# Altium integrated library WE-PD2_rev15a.intlib: 122 symbols (part 1 of 2)
Pins are listed as number, name and electrical type; pins without a type are passive.

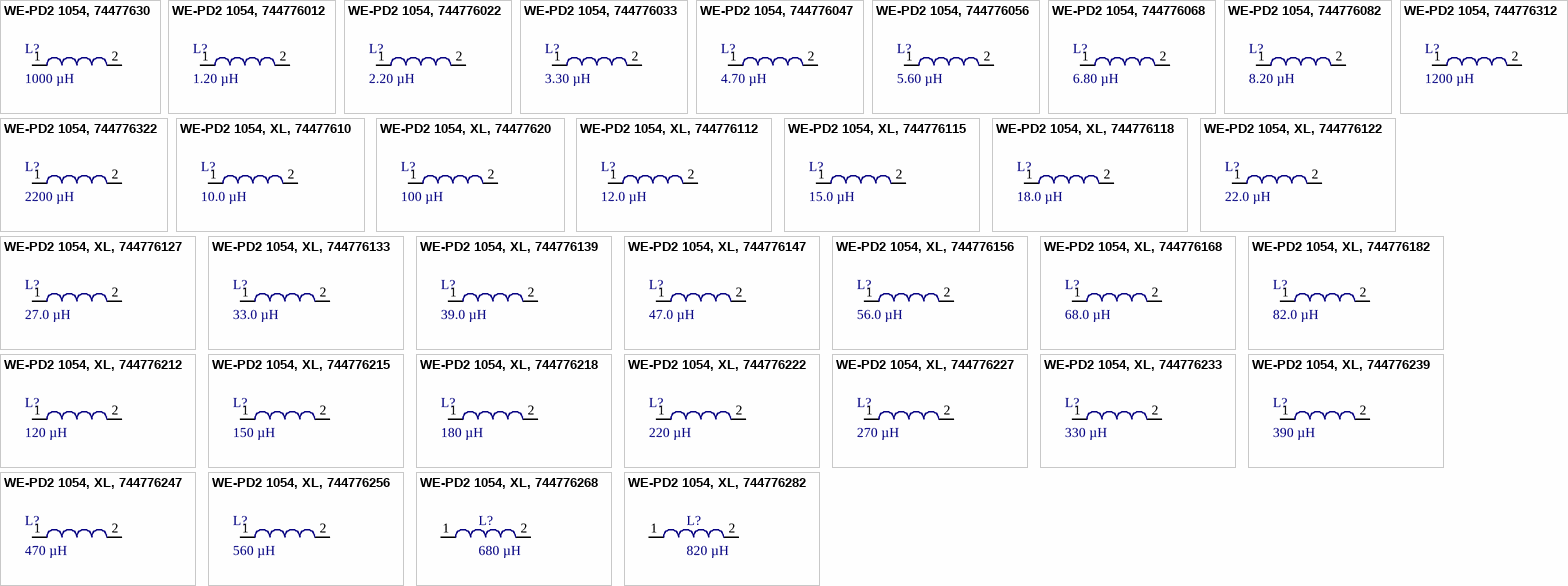
[diagram p0: symbols WE-PD2 1054, 74477630 to WE-PD2 1054, XL, 744776282]

## WE-PD2 1054, 74477630
designator L?, comment 1000 µH
SMD Power Inductor WE-PD2, L=1000 µH; partNo: 74477630; Manufacturer: Würth Elektronik eiSos GmbH; Inductance: 1000 µH; ComponentLink1Description: Manufacturer; ComponentLink1URL: http://www.we-online.de; Created by: Christin Otto; Created Date: August 2013; ComponentLink2Description: Datasheet; ComponentLink2URL: http://www.we-online.de/katalog/media/pdf/74477630.pdf
footprint WE-PD2_1054 (SMD Inductor, 2-Leads, Body 10,0x9,0mm)
pins: 1, 2

## WE-PD2 1054, 744776012
designator L?, comment 1.20 µH
SMD Power Inductor WE-PD2, L=1.20 µH; partNo: 744776012; Manufacturer: Würth Elektronik eiSos GmbH; Inductance: 1.20 µH; ComponentLink1Description: Manufacturer; ComponentLink1URL: http://www.we-online.de; Created by: Christin Otto; Created Date: March 2013; ComponentLink2Description: Datasheet; ComponentLink2URL: http://www.we-online.de/katalog/media/pdf/744776012.pdf
footprint WE-PD2_1054 (SMD Inductor, 2-Leads, Body 10,0x9,0mm)
pins: 1, 2

## WE-PD2 1054, 744776022
designator L?, comment 2.20 µH
SMD Power Inductor WE-PD2, L=2.20 µH; partNo: 744776022; Manufacturer: Würth Elektronik eiSos GmbH; Inductance: 2.20 µH; ComponentLink1Description: Manufacturer; ComponentLink1URL: http://www.we-online.de; Created by: Christin Otto; Created Date: March 2013; ComponentLink2Description: Datasheet; ComponentLink2URL: http://www.we-online.de/katalog/media/pdf/744776022.pdf
footprint WE-PD2_1054 (SMD Inductor, 2-Leads, Body 10,0x9,0mm)
pins: 1, 2

## WE-PD2 1054, 744776033
designator L?, comment 3.30 µH
SMD Power Inductor WE-PD2, L=3.30 µH; partNo: 744776033; Manufacturer: Würth Elektronik eiSos GmbH; Inductance: 3.30 µH; ComponentLink1Description: Manufacturer; ComponentLink1URL: http://www.we-online.de; Created by: Christin Otto; Created Date: March 2013; ComponentLink2Description: Datasheet; ComponentLink2URL: http://www.we-online.de/katalog/media/pdf/744776033.pdf
footprint WE-PD2_1054 (SMD Inductor, 2-Leads, Body 10,0x9,0mm)
pins: 1, 2

## WE-PD2 1054, 744776047
designator L?, comment 4.70 µH
SMD Power Inductor WE-PD2, L=4.70 µH; partNo: 744776047; Manufacturer: Würth Elektronik eiSos GmbH; Inductance: 4.70 µH; ComponentLink1Description: Manufacturer; ComponentLink1URL: http://www.we-online.de; Created by: Christin Otto; Created Date: March 2013; ComponentLink2Description: Datasheet; ComponentLink2URL: http://www.we-online.de/katalog/media/pdf/744776047.pdf
footprint WE-PD2_1054 (SMD Inductor, 2-Leads, Body 10,0x9,0mm)
pins: 1, 2

## WE-PD2 1054, 744776056
designator L?, comment 5.60 µH
SMD Power Inductor WE-PD2, L=5.60 µH; partNo: 744776056; Manufacturer: Würth Elektronik eiSos GmbH; Inductance: 5.60 µH; ComponentLink1Description: Manufacturer; ComponentLink1URL: http://www.we-online.de; Created by: Christin Otto; Created Date: March 2013; ComponentLink2Description: Datasheet; ComponentLink2URL: http://www.we-online.de/katalog/media/pdf/744776056.pdf
footprint WE-PD2_1054 (SMD Inductor, 2-Leads, Body 10,0x9,0mm)
pins: 1, 2

## WE-PD2 1054, 744776068
designator L?, comment 6.80 µH
SMD Power Inductor WE-PD2, L=6.80 µH; partNo: 744776068; Manufacturer: Würth Elektronik eiSos GmbH; Inductance: 6.80 µH; ComponentLink1Description: Manufacturer; ComponentLink1URL: http://www.we-online.de; Created by: Christin Otto; Created Date: March 2013; ComponentLink2Description: Datasheet; ComponentLink2URL: http://www.we-online.de/katalog/media/pdf/744776068.pdf
footprint WE-PD2_1054 (SMD Inductor, 2-Leads, Body 10,0x9,0mm)
pins: 1, 2

## WE-PD2 1054, 744776082
designator L?, comment 8.20 µH
SMD Power Inductor WE-PD2, L=8.20 µH; partNo: 744776082; Manufacturer: Würth Elektronik eiSos GmbH; Inductance: 8.20 µH; ComponentLink1Description: Manufacturer; ComponentLink1URL: http://www.we-online.de; Created by: Christin Otto; Created Date: March 2013; ComponentLink2Description: Datasheet; ComponentLink2URL: http://www.we-online.de/katalog/media/pdf/744776082.pdf
footprint WE-PD2_1054 (SMD Inductor, 2-Leads, Body 10,0x9,0mm)
pins: 1, 2

## WE-PD2 1054, 744776312
designator L?, comment 1200 µH
SMD Power Inductor WE-PD2, L=1200 µH; partNo: 744776312; Manufacturer: Würth Elektronik eiSos GmbH; Inductance: 1200 µH; ComponentLink1Description: Manufacturer; ComponentLink1URL: http://www.we-online.de; Created by: Christin Otto; Created Date: August 2013; ComponentLink2Description: Datasheet; ComponentLink2URL: http://www.we-online.de/katalog/media/pdf/744776312.pdf
footprint WE-PD2_1054 (SMD Inductor, 2-Leads, Body 10,0x9,0mm)
pins: 1, 2

## WE-PD2 1054, 744776322
designator L?, comment 2200 µH
SMD Power Inductor WE-PD2, L=2200 µH; partNo: 744776322; Manufacturer: Würth Elektronik eiSos GmbH; Inductance: 2200 µH; ComponentLink1Description: Manufacturer; ComponentLink1URL: http://www.we-online.de; Created by: Christin Otto; Created Date: August 2013; ComponentLink2Description: Datasheet; ComponentLink2URL: http://www.we-online.de/katalog/media/pdf/744776322.pdf
footprint WE-PD2_1054 (SMD Inductor, 2-Leads, Body 10,0x9,0mm)
pins: 1, 2

## WE-PD2 1054, XL, 74477610
designator L?, comment 10.0 µH
SMD Power Inductor WE-PD2, L=10.0 µH; partNo: 74477610; Manufacturer: Würth Elektronik eiSos GmbH; Inductance: 10.0 µH; ComponentLink1Description: Manufacturer; ComponentLink1URL: http://www.we-online.de; Created by: Christin Zierenner; Created Date: August 2009; ComponentLink2Description: Datasheet; ComponentLink2URL: http://www.we-online.de/katalog/media/pdf/74477610.pdf
footprint WE-PD2_1054 (SMD Inductor, 2-Leads, Body 10,0x9,0mm)
pins: 1, 2

## WE-PD2 1054, XL, 74477620
designator L?, comment 100 µH
SMD Power Inductor WE-PD2, L=100 µH; partNo: 74477620; Manufacturer: Würth Elektronik eiSos GmbH; Inductance: 100 µH; ComponentLink1Description: Manufacturer; ComponentLink1URL: http://www.we-online.de; Created by: Christin Zierenner; Created Date: August 2009; ComponentLink2Description: Datasheet; ComponentLink2URL: http://www.we-online.de/katalog/media/pdf/74477620.pdf
footprint WE-PD2_1054 (SMD Inductor, 2-Leads, Body 10,0x9,0mm)
pins: 1, 2

## WE-PD2 1054, XL, 744776112
designator L?, comment 12.0 µH
SMD Power Inductor WE-PD2, L=12.0 µH; partNo: 744776112; Manufacturer: Würth Elektronik eiSos GmbH; Inductance: 12.0 µH; ComponentLink1Description: Manufacturer; ComponentLink1URL: http://www.we-online.de; Created by: Christin Zierenner; Created Date: August 2009; ComponentLink2Description: Datasheet; ComponentLink2URL: http://www.we-online.de/katalog/media/pdf/744776112.pdf
footprint WE-PD2_1054 (SMD Inductor, 2-Leads, Body 10,0x9,0mm)
pins: 1, 2

## WE-PD2 1054, XL, 744776115
designator L?, comment 15.0 µH
SMD Power Inductor WE-PD2, L=15.0 µH; partNo: 744776115; Manufacturer: Würth Elektronik eiSos GmbH; Inductance: 15.0 µH; ComponentLink1Description: Manufacturer; ComponentLink1URL: http://www.we-online.de; Created by: Christin Zierenner; Created Date: August 2009; ComponentLink2Description: Datasheet; ComponentLink2URL: http://www.we-online.de/katalog/media/pdf/744776115.pdf
footprint WE-PD2_1054 (SMD Inductor, 2-Leads, Body 10,0x9,0mm)
pins: 1, 2

## WE-PD2 1054, XL, 744776118
designator L?, comment 18.0 µH
SMD Power Inductor WE-PD2, L=18.0 µH; partNo: 744776118; Manufacturer: Würth Elektronik eiSos GmbH; Inductance: 18.0 µH; ComponentLink1Description: Manufacturer; ComponentLink1URL: http://www.we-online.de; Created by: Christin Zierenner; Created Date: August 2009; ComponentLink2Description: Datasheet; ComponentLink2URL: http://www.we-online.de/katalog/media/pdf/744776118.pdf
footprint WE-PD2_1054 (SMD Inductor, 2-Leads, Body 10,0x9,0mm)
pins: 1, 2

## WE-PD2 1054, XL, 744776122
designator L?, comment 22.0 µH
SMD Power Inductor WE-PD2, L=22.0 µH; partNo: 744776122; Manufacturer: Würth Elektronik eiSos GmbH; Inductance: 22.0 µH; ComponentLink1Description: Manufacturer; ComponentLink1URL: http://www.we-online.de; Created by: Christin Zierenner; Created Date: August 2009; ComponentLink2Description: Datasheet; ComponentLink2URL: http://www.we-online.de/katalog/media/pdf/744776122.pdf
footprint WE-PD2_1054 (SMD Inductor, 2-Leads, Body 10,0x9,0mm)
pins: 1, 2

## WE-PD2 1054, XL, 744776127
designator L?, comment 27.0 µH
SMD Power Inductor WE-PD2, L=27.0 µH; partNo: 744776127; Manufacturer: Würth Elektronik eiSos GmbH; Inductance: 27.0 µH; ComponentLink1Description: Manufacturer; ComponentLink1URL: http://www.we-online.de; Created by: Christin Zierenner; Created Date: August 2009; ComponentLink2Description: Datasheet; ComponentLink2URL: http://www.we-online.de/katalog/media/pdf/744776127.pdf
footprint WE-PD2_1054 (SMD Inductor, 2-Leads, Body 10,0x9,0mm)
pins: 1, 2

## WE-PD2 1054, XL, 744776133
designator L?, comment 33.0 µH
SMD Power Inductor WE-PD2, L=33.0 µH; partNo: 744776133; Manufacturer: Würth Elektronik eiSos GmbH; Inductance: 33.0 µH; ComponentLink1Description: Manufacturer; ComponentLink1URL: http://www.we-online.de; Created by: Christin Zierenner; Created Date: August 2009; ComponentLink2Description: Datasheet; ComponentLink2URL: http://www.we-online.de/katalog/media/pdf/744776133.pdf
footprint WE-PD2_1054 (SMD Inductor, 2-Leads, Body 10,0x9,0mm)
pins: 1, 2

## WE-PD2 1054, XL, 744776139
designator L?, comment 39.0 µH
SMD Power Inductor WE-PD2, L=39.0 µH; partNo: 744776139; Manufacturer: Würth Elektronik eiSos GmbH; Inductance: 39.0 µH; ComponentLink1Description: Manufacturer; ComponentLink1URL: http://www.we-online.de; Created by: Christin Zierenner; Created Date: August 2009; ComponentLink2Description: Datasheet; ComponentLink2URL: http://www.we-online.de/katalog/media/pdf/744776139.pdf
footprint WE-PD2_1054 (SMD Inductor, 2-Leads, Body 10,0x9,0mm)
pins: 1, 2

## WE-PD2 1054, XL, 744776147
designator L?, comment 47.0 µH
SMD Power Inductor WE-PD2, L=47.0 µH; partNo: 744776147; Manufacturer: Würth Elektronik eiSos GmbH; Inductance: 47.0 µH; ComponentLink1Description: Manufacturer; ComponentLink1URL: http://www.we-online.de; Created by: Christin Zierenner; Created Date: August 2009; ComponentLink2Description: Datasheet; ComponentLink2URL: http://www.we-online.de/katalog/media/pdf/744776147.pdf
footprint WE-PD2_1054 (SMD Inductor, 2-Leads, Body 10,0x9,0mm)
pins: 1, 2

## WE-PD2 1054, XL, 744776156
designator L?, comment 56.0 µH
SMD Power Inductor WE-PD2, L=56.0 µH; partNo: 744776156; Manufacturer: Würth Elektronik eiSos GmbH; Inductance: 56.0 µH; ComponentLink1Description: Manufacturer; ComponentLink1URL: http://www.we-online.de; Created by: Christin Zierenner; Created Date: August 2009; ComponentLink2Description: Datasheet; ComponentLink2URL: http://www.we-online.de/katalog/media/pdf/744776156.pdf
footprint WE-PD2_1054 (SMD Inductor, 2-Leads, Body 10,0x9,0mm)
pins: 1, 2

## WE-PD2 1054, XL, 744776168
designator L?, comment 68.0 µH
SMD Power Inductor WE-PD2, L=68.0 µH; partNo: 744776168; Manufacturer: Würth Elektronik eiSos GmbH; Inductance: 68.0 µH; ComponentLink1Description: Manufacturer; ComponentLink1URL: http://www.we-online.de; Created by: Christin Zierenner; Created Date: August 2009; ComponentLink2Description: Datasheet; ComponentLink2URL: http://www.we-online.de/katalog/media/pdf/744776168.pdf
footprint WE-PD2_1054 (SMD Inductor, 2-Leads, Body 10,0x9,0mm)
pins: 1, 2

## WE-PD2 1054, XL, 744776182
designator L?, comment 82.0 µH
SMD Power Inductor WE-PD2, L=82.0 µH; partNo: 744776182; Manufacturer: Würth Elektronik eiSos GmbH; Inductance: 82.0 µH; ComponentLink1Description: Manufacturer; ComponentLink1URL: http://www.we-online.de; Created by: Christin Zierenner; Created Date: August 2009; ComponentLink2Description: Datasheet; ComponentLink2URL: http://www.we-online.de/katalog/media/pdf/744776182.pdf
footprint WE-PD2_1054 (SMD Inductor, 2-Leads, Body 10,0x9,0mm)
pins: 1, 2

## WE-PD2 1054, XL, 744776212
designator L?, comment 120 µH
SMD Power Inductor WE-PD2, L=120 µH; partNo: 744776212; Manufacturer: Würth Elektronik eiSos GmbH; Inductance: 120 µH; ComponentLink1Description: Manufacturer; ComponentLink1URL: http://www.we-online.de; Created by: Christin Zierenner; Created Date: August 2009; ComponentLink2Description: Datasheet; ComponentLink2URL: http://www.we-online.de/katalog/media/pdf/744776212.pdf
footprint WE-PD2_1054 (SMD Inductor, 2-Leads, Body 10,0x9,0mm)
pins: 1, 2

## WE-PD2 1054, XL, 744776215
designator L?, comment 150 µH
SMD Power Inductor WE-PD2, L=150 µH; partNo: 744776215; Manufacturer: Würth Elektronik eiSos GmbH; Inductance: 150 µH; ComponentLink1Description: Manufacturer; ComponentLink1URL: http://www.we-online.de; Created by: Christin Zierenner; Created Date: August 2009; ComponentLink2Description: Datasheet; ComponentLink2URL: http://www.we-online.de/katalog/media/pdf/744776215.pdf
footprint WE-PD2_1054 (SMD Inductor, 2-Leads, Body 10,0x9,0mm)
pins: 1, 2

## WE-PD2 1054, XL, 744776218
designator L?, comment 180 µH
SMD Power Inductor WE-PD2, L=180 µH; partNo: 744776218; Manufacturer: Würth Elektronik eiSos GmbH; Inductance: 180 µH; ComponentLink1Description: Manufacturer; ComponentLink1URL: http://www.we-online.de; Created by: Christin Zierenner; Created Date: August 2009; ComponentLink2Description: Datasheet; ComponentLink2URL: http://www.we-online.de/katalog/media/pdf/744776218.pdf
footprint WE-PD2_1054 (SMD Inductor, 2-Leads, Body 10,0x9,0mm)
pins: 1, 2

## WE-PD2 1054, XL, 744776222
designator L?, comment 220 µH
SMD Power Inductor WE-PD2, L=220 µH; partNo: 744776222; Manufacturer: Würth Elektronik eiSos GmbH; Inductance: 220 µH; ComponentLink1Description: Manufacturer; ComponentLink1URL: http://www.we-online.de; Created by: Christin Zierenner; Created Date: August 2009; ComponentLink2Description: Datasheet; ComponentLink2URL: http://www.we-online.de/katalog/media/pdf/744776222.pdf
footprint WE-PD2_1054 (SMD Inductor, 2-Leads, Body 10,0x9,0mm)
pins: 1, 2

## WE-PD2 1054, XL, 744776227
designator L?, comment 270 µH
SMD Power Inductor WE-PD2, L=270 µH; partNo: 744776227; Manufacturer: Würth Elektronik eiSos GmbH; Inductance: 270 µH; ComponentLink1Description: Manufacturer; ComponentLink1URL: http://www.we-online.de; Created by: Christin Zierenner; Created Date: August 2009; ComponentLink2Description: Datasheet; ComponentLink2URL: http://www.we-online.de/katalog/media/pdf/744776227.pdf
footprint WE-PD2_1054 (SMD Inductor, 2-Leads, Body 10,0x9,0mm)
pins: 1, 2

## WE-PD2 1054, XL, 744776233
designator L?, comment 330 µH
SMD Power Inductor WE-PD2, L=330 µH; partNo: 744776233; Manufacturer: Würth Elektronik eiSos GmbH; Inductance: 330 µH; ComponentLink1Description: Manufacturer; ComponentLink1URL: http://www.we-online.de; Created by: Christin Zierenner; Created Date: August 2009; ComponentLink2Description: Datasheet; ComponentLink2URL: http://www.we-online.de/katalog/media/pdf/744776233.pdf
footprint WE-PD2_1054 (SMD Inductor, 2-Leads, Body 10,0x9,0mm)
pins: 1, 2

## WE-PD2 1054, XL, 744776239
designator L?, comment 390 µH
SMD Power Inductor WE-PD2, L=390 µH; partNo: 744776239; Manufacturer: Würth Elektronik eiSos GmbH; Inductance: 390 µH; ComponentLink1Description: Manufacturer; ComponentLink1URL: http://www.we-online.de; Created by: Christin Zierenner; Created Date: August 2009; ComponentLink2Description: Datasheet; ComponentLink2URL: http://www.we-online.de/katalog/media/pdf/744776239.pdf
footprint WE-PD2_1054 (SMD Inductor, 2-Leads, Body 10,0x9,0mm)
pins: 1, 2

## WE-PD2 1054, XL, 744776247
designator L?, comment 470 µH
SMD Power Inductor WE-PD2, L=470 µH; partNo: 744776247; Manufacturer: Würth Elektronik eiSos GmbH; Inductance: 470 µH; ComponentLink1Description: Manufacturer; ComponentLink1URL: http://www.we-online.de; Created by: Christin Zierenner; Created Date: August 2009; ComponentLink2Description: Datasheet; ComponentLink2URL: http://www.we-online.de/katalog/media/pdf/744776247.pdf
footprint WE-PD2_1054 (SMD Inductor, 2-Leads, Body 10,0x9,0mm)
pins: 1, 2

## WE-PD2 1054, XL, 744776256
designator L?, comment 560 µH
SMD Power Inductor WE-PD2, L=560 µH; partNo: 744776256; Manufacturer: Würth Elektronik eiSos GmbH; Inductance: 560 µH; ComponentLink1Description: Manufacturer; ComponentLink1URL: http://www.we-online.de; Created by: Christin Zierenner; Created Date: August 2009; ComponentLink2Description: Datasheet; ComponentLink2URL: http://www.we-online.de/katalog/media/pdf/744776256.pdf
footprint WE-PD2_1054 (SMD Inductor, 2-Leads, Body 10,0x9,0mm)
pins: 1, 2

## WE-PD2 1054, XL, 744776268
designator L?, comment 680 µH
SMD Power Inductor WE-PD2, L=680 µH; partNo: 744776268; Manufacturer: Würth Elektronik eiSos GmbH; Inductance: 680 µH; ComponentLink1Description: Manufacturer; ComponentLink1URL: http://www.we-online.de; Created by: Christin Zierenner; Created Date: August 2009; ComponentLink2Description: Datasheet; ComponentLink2URL: http://www.we-online.de/katalog/media/pdf/744776268.pdf
footprint WE-PD2_1054 (SMD Inductor, 2-Leads, Body 10,0x9,0mm)
pins: 1, 2

## WE-PD2 1054, XL, 744776282
designator L?, comment 820 µH
SMD Power Inductor WE-PD2, L=820 µH; partNo: 744776282; Manufacturer: Würth Elektronik eiSos GmbH; Inductance: 820 µH; ComponentLink1Description: Manufacturer; ComponentLink1URL: http://www.we-online.de; Created by: Christin Zierenner; Created Date: August 2009; ComponentLink2Description: Datasheet; ComponentLink2URL: http://www.we-online.de/katalog/media/pdf/744776282.pdf
footprint WE-PD2_1054 (SMD Inductor, 2-Leads, Body 10,0x9,0mm)
pins: 1, 2


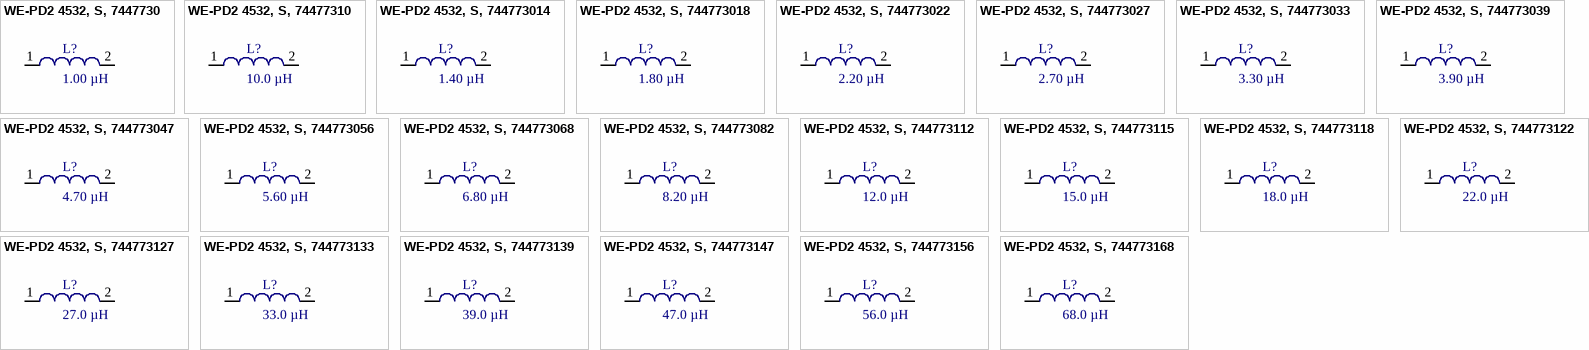
[diagram p1: symbols WE-PD2 4532, S, 7447730 to WE-PD2 4532, S, 744773168]

## WE-PD2 4532, S, 7447730
designator L?, comment 1.00 µH
SMD Power Inductor WE-PD2, L=1.00 µH; partNo: 7447730; Manufacturer: Würth Elektronik eiSos GmbH; Inductance: 1.00 µH; ComponentLink1Description: Manufacturer; ComponentLink1URL: http://www.we-online.de; Created by: Christin Zierenner; Created Date: August 2009; ComponentLink2Description: Datasheet; ComponentLink2URL: http://www.we-online.de/katalog/media/pdf/7447730.pdf
footprint WE-PD2_4532 (SMD Inductor, 2-Leads, Body 4,5x4,0mm)
pins: 1, 2

## WE-PD2 4532, S, 74477310
designator L?, comment 10.0 µH
SMD Power Inductor WE-PD2, L=10.0 µH; partNo: 74477310; Manufacturer: Würth Elektronik eiSos GmbH; Inductance: 10.0 µH; ComponentLink1Description: Manufacturer; ComponentLink1URL: http://www.we-online.de; Created by: Christin Zierenner; Created Date: August 2009; ComponentLink2Description: Datasheet; ComponentLink2URL: http://www.we-online.de/katalog/media/pdf/74477310.pdf
footprint WE-PD2_4532 (SMD Inductor, 2-Leads, Body 4,5x4,0mm)
pins: 1, 2

## WE-PD2 4532, S, 744773014
designator L?, comment 1.40 µH
SMD Power Inductor WE-PD2, L=1.40 µH; partNo: 744773014; Manufacturer: Würth Elektronik eiSos GmbH; Inductance: 1.40 µH; ComponentLink1Description: Manufacturer; ComponentLink1URL: http://www.we-online.de; Created by: Christin Zierenner; Created Date: August 2009; ComponentLink2Description: Datasheet; ComponentLink2URL: http://www.we-online.de/katalog/media/pdf/744773014.pdf
footprint WE-PD2_4532 (SMD Inductor, 2-Leads, Body 4,5x4,0mm)
pins: 1, 2

## WE-PD2 4532, S, 744773018
designator L?, comment 1.80 µH
SMD Power Inductor WE-PD2, L=1.80 µH; partNo: 744773018; Manufacturer: Würth Elektronik eiSos GmbH; Inductance: 1.80 µH; ComponentLink1Description: Manufacturer; ComponentLink1URL: http://www.we-online.de; Created by: Christin Zierenner; Created Date: August 2009; ComponentLink2Description: Datasheet; ComponentLink2URL: http://www.we-online.de/katalog/media/pdf/744773018.pdf
footprint WE-PD2_4532 (SMD Inductor, 2-Leads, Body 4,5x4,0mm)
pins: 1, 2

## WE-PD2 4532, S, 744773022
designator L?, comment 2.20 µH
SMD Power Inductor WE-PD2, L=2.20 µH; partNo: 744773022; Manufacturer: Würth Elektronik eiSos GmbH; Inductance: 2.20 µH; ComponentLink1Description: Manufacturer; ComponentLink1URL: http://www.we-online.de; Created by: Christin Zierenner; Created Date: August 2009; ComponentLink2Description: Datasheet; ComponentLink2URL: http://www.we-online.de/katalog/media/pdf/744773022.pdf
footprint WE-PD2_4532 (SMD Inductor, 2-Leads, Body 4,5x4,0mm)
pins: 1, 2

## WE-PD2 4532, S, 744773027
designator L?, comment 2.70 µH
SMD Power Inductor WE-PD2, L=2.70 µH; partNo: 744773027; Manufacturer: Würth Elektronik eiSos GmbH; Inductance: 2.70 µH; ComponentLink1Description: Manufacturer; ComponentLink1URL: http://www.we-online.de; Created by: Christin Zierenner; Created Date: August 2009; ComponentLink2Description: Datasheet; ComponentLink2URL: http://www.we-online.de/katalog/media/pdf/744773027.pdf
footprint WE-PD2_4532 (SMD Inductor, 2-Leads, Body 4,5x4,0mm)
pins: 1, 2

## WE-PD2 4532, S, 744773033
designator L?, comment 3.30 µH
SMD Power Inductor WE-PD2, L=3.30 µH; partNo: 744773033; Manufacturer: Würth Elektronik eiSos GmbH; Inductance: 3.30 µH; ComponentLink1Description: Manufacturer; ComponentLink1URL: http://www.we-online.de; Created by: Christin Zierenner; Created Date: August 2009; ComponentLink2Description: Datasheet; ComponentLink2URL: http://www.we-online.de/katalog/media/pdf/744773033.pdf
footprint WE-PD2_4532 (SMD Inductor, 2-Leads, Body 4,5x4,0mm)
pins: 1, 2

## WE-PD2 4532, S, 744773039
designator L?, comment 3.90 µH
SMD Power Inductor WE-PD2, L=3.90 µH; partNo: 744773039; Manufacturer: Würth Elektronik eiSos GmbH; Inductance: 3.90 µH; ComponentLink1Description: Manufacturer; ComponentLink1URL: http://www.we-online.de; Created by: Christin Zierenner; Created Date: August 2009; ComponentLink2Description: Datasheet; ComponentLink2URL: http://www.we-online.de/katalog/media/pdf/744773039.pdf
footprint WE-PD2_4532 (SMD Inductor, 2-Leads, Body 4,5x4,0mm)
pins: 1, 2

## WE-PD2 4532, S, 744773047
designator L?, comment 4.70 µH
SMD Power Inductor WE-PD2, L=4.70 µH; partNo: 744773047; Manufacturer: Würth Elektronik eiSos GmbH; Inductance: 4.70 µH; ComponentLink1Description: Manufacturer; ComponentLink1URL: http://www.we-online.de; Created by: Christin Zierenner; Created Date: August 2009; ComponentLink2Description: Datasheet; ComponentLink2URL: http://www.we-online.de/katalog/media/pdf/744773047.pdf
footprint WE-PD2_4532 (SMD Inductor, 2-Leads, Body 4,5x4,0mm)
pins: 1, 2

## WE-PD2 4532, S, 744773056
designator L?, comment 5.60 µH
SMD Power Inductor WE-PD2, L=5.60 µH; partNo: 744773056; Manufacturer: Würth Elektronik eiSos GmbH; Inductance: 5.60 µH; ComponentLink1Description: Manufacturer; ComponentLink1URL: http://www.we-online.de; Created by: Christin Zierenner; Created Date: August 2009; ComponentLink2Description: Datasheet; ComponentLink2URL: http://www.we-online.de/katalog/media/pdf/744773056.pdf
footprint WE-PD2_4532 (SMD Inductor, 2-Leads, Body 4,5x4,0mm)
pins: 1, 2

## WE-PD2 4532, S, 744773068
designator L?, comment 6.80 µH
SMD Power Inductor WE-PD2, L=6.80 µH; partNo: 744773068; Manufacturer: Würth Elektronik eiSos GmbH; Inductance: 6.80 µH; ComponentLink1Description: Manufacturer; ComponentLink1URL: http://www.we-online.de; Created by: Christin Zierenner; Created Date: August 2009; ComponentLink2Description: Datasheet; ComponentLink2URL: http://www.we-online.de/katalog/media/pdf/744773068.pdf
footprint WE-PD2_4532 (SMD Inductor, 2-Leads, Body 4,5x4,0mm)
pins: 1, 2

## WE-PD2 4532, S, 744773082
designator L?, comment 8.20 µH
SMD Power Inductor WE-PD2, L=8.20 µH; partNo: 744773082; Manufacturer: Würth Elektronik eiSos GmbH; Inductance: 8.20 µH; ComponentLink1Description: Manufacturer; ComponentLink1URL: http://www.we-online.de; Created by: Christin Zierenner; Created Date: August 2009; ComponentLink2Description: Datasheet; ComponentLink2URL: http://www.we-online.de/katalog/media/pdf/744773082.pdf
footprint WE-PD2_4532 (SMD Inductor, 2-Leads, Body 4,5x4,0mm)
pins: 1, 2

## WE-PD2 4532, S, 744773112
designator L?, comment 12.0 µH
SMD Power Inductor WE-PD2, L=12.0 µH; partNo: 744773112; Manufacturer: Würth Elektronik eiSos GmbH; Inductance: 12.0 µH; ComponentLink1Description: Manufacturer; ComponentLink1URL: http://www.we-online.de; Created by: Christin Zierenner; Created Date: August 2009; ComponentLink2Description: Datasheet; ComponentLink2URL: http://www.we-online.de/katalog/media/pdf/744773112.pdf
footprint WE-PD2_4532 (SMD Inductor, 2-Leads, Body 4,5x4,0mm)
pins: 1, 2

## WE-PD2 4532, S, 744773115
designator L?, comment 15.0 µH
SMD Power Inductor WE-PD2, L=15.0 µH; partNo: 744773115; Manufacturer: Würth Elektronik eiSos GmbH; Inductance: 15.0 µH; ComponentLink1Description: Manufacturer; ComponentLink1URL: http://www.we-online.de; Created by: Christin Zierenner; Created Date: August 2009; ComponentLink2Description: Datasheet; ComponentLink2URL: http://www.we-online.de/katalog/media/pdf/744773115.pdf
footprint WE-PD2_4532 (SMD Inductor, 2-Leads, Body 4,5x4,0mm)
pins: 1, 2

## WE-PD2 4532, S, 744773118
designator L?, comment 18.0 µH
SMD Power Inductor WE-PD2, L=18.0 µH; partNo: 744773118; Manufacturer: Würth Elektronik eiSos GmbH; Inductance: 18.0 µH; ComponentLink1Description: Manufacturer; ComponentLink1URL: http://www.we-online.de; Created by: Christin Zierenner; Created Date: August 2009; ComponentLink2Description: Datasheet; ComponentLink2URL: http://www.we-online.de/katalog/media/pdf/744773118.pdf
footprint WE-PD2_4532 (SMD Inductor, 2-Leads, Body 4,5x4,0mm)
pins: 1, 2

## WE-PD2 4532, S, 744773122
designator L?, comment 22.0 µH
SMD Power Inductor WE-PD2, L=22.0 µH; partNo: 744773122; Manufacturer: Würth Elektronik eiSos GmbH; Inductance: 22.0 µH; ComponentLink1Description: Manufacturer; ComponentLink1URL: http://www.we-online.de; Created by: Christin Zierenner; Created Date: August 2009; ComponentLink2Description: Datasheet; ComponentLink2URL: http://www.we-online.de/katalog/media/pdf/744773122.pdf
footprint WE-PD2_4532 (SMD Inductor, 2-Leads, Body 4,5x4,0mm)
pins: 1, 2

## WE-PD2 4532, S, 744773127
designator L?, comment 27.0 µH
SMD Power Inductor WE-PD2, L=27.0 µH; partNo: 744773127; Manufacturer: Würth Elektronik eiSos GmbH; Inductance: 27.0 µH; ComponentLink1Description: Manufacturer; ComponentLink1URL: http://www.we-online.de; Created by: Christin Zierenner; Created Date: August 2009; ComponentLink2Description: Datasheet; ComponentLink2URL: http://www.we-online.de/katalog/media/pdf/744773127.pdf
footprint WE-PD2_4532 (SMD Inductor, 2-Leads, Body 4,5x4,0mm)
pins: 1, 2

## WE-PD2 4532, S, 744773133
designator L?, comment 33.0 µH
SMD Power Inductor WE-PD2, L=33.0 µH; partNo: 744773133; Manufacturer: Würth Elektronik eiSos GmbH; Inductance: 33.0 µH; ComponentLink1Description: Manufacturer; ComponentLink1URL: http://www.we-online.de; Created by: Christin Zierenner; Created Date: August 2009; ComponentLink2Description: Datasheet; ComponentLink2URL: http://www.we-online.de/katalog/media/pdf/744773133.pdf
footprint WE-PD2_4532 (SMD Inductor, 2-Leads, Body 4,5x4,0mm)
pins: 1, 2

## WE-PD2 4532, S, 744773139
designator L?, comment 39.0 µH
SMD Power Inductor WE-PD2, L=39.0 µH; partNo: 744773139; Manufacturer: Würth Elektronik eiSos GmbH; Inductance: 39.0 µH; ComponentLink1Description: Manufacturer; ComponentLink1URL: http://www.we-online.de; Created by: Christin Zierenner; Created Date: August 2009; ComponentLink2Description: Datasheet; ComponentLink2URL: http://www.we-online.de/katalog/media/pdf/744773139.pdf
footprint WE-PD2_4532 (SMD Inductor, 2-Leads, Body 4,5x4,0mm)
pins: 1, 2

## WE-PD2 4532, S, 744773147
designator L?, comment 47.0 µH
SMD Power Inductor WE-PD2, L=47.0 µH; partNo: 744773147; Manufacturer: Würth Elektronik eiSos GmbH; Inductance: 47.0 µH; ComponentLink1Description: Manufacturer; ComponentLink1URL: http://www.we-online.de; Created by: Christin Zierenner; Created Date: August 2009; ComponentLink2Description: Datasheet; ComponentLink2URL: http://www.we-online.de/katalog/media/pdf/744773147.pdf
footprint WE-PD2_4532 (SMD Inductor, 2-Leads, Body 4,5x4,0mm)
pins: 1, 2

## WE-PD2 4532, S, 744773156
designator L?, comment 56.0 µH
SMD Power Inductor WE-PD2, L=56.0 µH; partNo: 744773156; Manufacturer: Würth Elektronik eiSos GmbH; Inductance: 56.0 µH; ComponentLink1Description: Manufacturer; ComponentLink1URL: http://www.we-online.de; Created by: Christin Zierenner; Created Date: August 2009; ComponentLink2Description: Datasheet; ComponentLink2URL: http://www.we-online.de/katalog/media/pdf/744773156.pdf
footprint WE-PD2_4532 (SMD Inductor, 2-Leads, Body 4,5x4,0mm)
pins: 1, 2

## WE-PD2 4532, S, 744773168
designator L?, comment 68.0 µH
SMD Power Inductor WE-PD2, L=68.0 µH; partNo: 744773168; Manufacturer: Würth Elektronik eiSos GmbH; Inductance: 68.0 µH; ComponentLink1Description: Manufacturer; ComponentLink1URL: http://www.we-online.de; Created by: Christin Zierenner; Created Date: August 2009; ComponentLink2Description: Datasheet; ComponentLink2URL: http://www.we-online.de/katalog/media/pdf/744773168.pdf
footprint WE-PD2_4532 (SMD Inductor, 2-Leads, Body 4,5x4,0mm)
pins: 1, 2


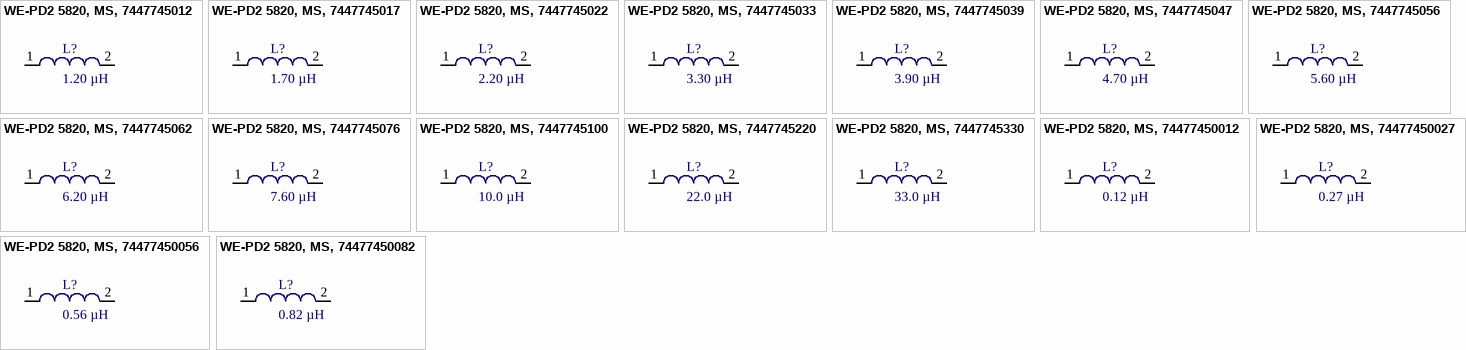
[diagram p2: symbols WE-PD2 5820, MS, 7447745012 to WE-PD2 5820, MS, 74477450082]

## WE-PD2 5820, MS, 7447745012
designator L?, comment 1.20 µH
SMD Power Inductor WE-PD2, L=1.20 µH; partNo: 7447745012; Manufacturer: Würth Elektronik eiSos GmbH; Inductance: 1.20 µH; ComponentLink1Description: Manufacturer; ComponentLink1URL: http://www.we-online.de; Created by: Christin Zierenner; Created Date: August 2009; ComponentLink2Description: Datasheet; ComponentLink2URL: http://www.we-online.de/katalog/media/pdf/7447745012.pdf
footprint WE-PD2_5820 (SMD Inductor, 2-Leads, Body 5,8x5,2mm)
pins: 1, 2

## WE-PD2 5820, MS, 7447745017
designator L?, comment 1.70 µH
SMD Power Inductor WE-PD2, L=1.70 µH; partNo: 7447745017; Manufacturer: Würth Elektronik eiSos GmbH; Inductance: 1.70 µH; ComponentLink1Description: Manufacturer; ComponentLink1URL: http://www.we-online.de; Created by: Christin Zierenner; Created Date: August 2009; ComponentLink2Description: Datasheet; ComponentLink2URL: http://www.we-online.de/katalog/media/pdf/7447745017.pdf
footprint WE-PD2_5820 (SMD Inductor, 2-Leads, Body 5,8x5,2mm)
pins: 1, 2

## WE-PD2 5820, MS, 7447745022
designator L?, comment 2.20 µH
SMD Power Inductor WE-PD2, L=2.20 µH; partNo: 7447745022; Manufacturer: Würth Elektronik eiSos GmbH; Inductance: 2.20 µH; ComponentLink1Description: Manufacturer; ComponentLink1URL: http://www.we-online.de; Created by: Christin Zierenner; Created Date: August 2009; ComponentLink2Description: Datasheet; ComponentLink2URL: http://www.we-online.de/katalog/media/pdf/7447745022.pdf
footprint WE-PD2_5820 (SMD Inductor, 2-Leads, Body 5,8x5,2mm)
pins: 1, 2

## WE-PD2 5820, MS, 7447745033
designator L?, comment 3.30 µH
SMD Power Inductor WE-PD2, L=3.30 µH; partNo: 7447745033; Manufacturer: Würth Elektronik eiSos GmbH; Inductance: 3.30 µH; ComponentLink1Description: Manufacturer; ComponentLink1URL: http://www.we-online.de; Created by: Christin Zierenner; Created Date: August 2009; ComponentLink2Description: Datasheet; ComponentLink2URL: http://www.we-online.de/katalog/media/pdf/7447745033.pdf
footprint WE-PD2_5820 (SMD Inductor, 2-Leads, Body 5,8x5,2mm)
pins: 1, 2

## WE-PD2 5820, MS, 7447745039
designator L?, comment 3.90 µH
SMD Power Inductor WE-PD2, L=3.90 µH; partNo: 7447745039; Manufacturer: Würth Elektronik eiSos GmbH; Inductance: 3.90 µH; ComponentLink1Description: Manufacturer; ComponentLink1URL: http://www.we-online.de; Created by: Christin Zierenner; Created Date: August 2009; ComponentLink2Description: Datasheet; ComponentLink2URL: http://www.we-online.de/katalog/media/pdf/7447745039.pdf
footprint WE-PD2_5820 (SMD Inductor, 2-Leads, Body 5,8x5,2mm)
pins: 1, 2

## WE-PD2 5820, MS, 7447745047
designator L?, comment 4.70 µH
SMD Power Inductor WE-PD2, L=4.70 µH; partNo: 7447745047; Manufacturer: Würth Elektronik eiSos GmbH; Inductance: 4.70 µH; ComponentLink1Description: Manufacturer; ComponentLink1URL: http://www.we-online.de; Created by: Christin Zierenner; Created Date: August 2009; ComponentLink2Description: Datasheet; ComponentLink2URL: http://www.we-online.de/katalog/media/pdf/7447745047.pdf
footprint WE-PD2_5820 (SMD Inductor, 2-Leads, Body 5,8x5,2mm)
pins: 1, 2

## WE-PD2 5820, MS, 7447745056
designator L?, comment 5.60 µH
SMD Power Inductor WE-PD2, L=5.60 µH; partNo: 7447745056; Manufacturer: Würth Elektronik eiSos GmbH; Inductance: 5.60 µH; ComponentLink1Description: Manufacturer; ComponentLink1URL: http://www.we-online.de; Created by: Christin Zierenner; Created Date: August 2009; ComponentLink2Description: Datasheet; ComponentLink2URL: http://www.we-online.de/katalog/media/pdf/7447745056.pdf
footprint WE-PD2_5820 (SMD Inductor, 2-Leads, Body 5,8x5,2mm)
pins: 1, 2

## WE-PD2 5820, MS, 7447745062
designator L?, comment 6.20 µH
SMD Power Inductor WE-PD2, L=6.20 µH; partNo: 7447745062; Manufacturer: Würth Elektronik eiSos GmbH; Inductance: 6.20 µH; ComponentLink1Description: Manufacturer; ComponentLink1URL: http://www.we-online.de; Created by: Christin Zierenner; Created Date: August 2009; ComponentLink2Description: Datasheet; ComponentLink2URL: http://www.we-online.de/katalog/media/pdf/7447745062.pdf
footprint WE-PD2_5820 (SMD Inductor, 2-Leads, Body 5,8x5,2mm)
pins: 1, 2

## WE-PD2 5820, MS, 7447745076
designator L?, comment 7.60 µH
SMD Power Inductor WE-PD2, L=7.60 µH; partNo: 7447745076; Manufacturer: Würth Elektronik eiSos GmbH; Inductance: 7.60 µH; ComponentLink1Description: Manufacturer; ComponentLink1URL: http://www.we-online.de; Created by: Christin Zierenner; Created Date: August 2009; ComponentLink2Description: Datasheet; ComponentLink2URL: http://www.we-online.de/katalog/media/pdf/7447745076.pdf
footprint WE-PD2_5820 (SMD Inductor, 2-Leads, Body 5,8x5,2mm)
pins: 1, 2

## WE-PD2 5820, MS, 7447745100
designator L?, comment 10.0 µH
SMD Power Inductor WE-PD2, L=10.0 µH; partNo: 7447745100; Manufacturer: Würth Elektronik eiSos GmbH; Inductance: 10.0 µH; ComponentLink1Description: Manufacturer; ComponentLink1URL: http://www.we-online.de; Created by: Christin Zierenner; Created Date: August 2009; ComponentLink2Description: Datasheet; ComponentLink2URL: http://www.we-online.de/katalog/media/pdf/7447745100.pdf
footprint WE-PD2_5820 (SMD Inductor, 2-Leads, Body 5,8x5,2mm)
pins: 1, 2

## WE-PD2 5820, MS, 7447745220
designator L?, comment 22.0 µH
SMD Power Inductor WE-PD2, L=22.0 µH; partNo: 7447745220; Manufacturer: Würth Elektronik eiSos GmbH; Inductance: 22.0 µH; ComponentLink1Description: Manufacturer; ComponentLink1URL: http://www.we-online.de; Created by: Christin Zierenner; Created Date: August 2009; ComponentLink2Description: Datasheet; ComponentLink2URL: http://www.we-online.de/katalog/media/pdf/7447745220.pdf
footprint WE-PD2_5820 (SMD Inductor, 2-Leads, Body 5,8x5,2mm)
pins: 1, 2

## WE-PD2 5820, MS, 7447745330
designator L?, comment 33.0 µH
SMD Power Inductor WE-PD2, L=33.0 µH; partNo: 7447745330; Manufacturer: Würth Elektronik eiSos GmbH; Inductance: 33.0 µH; ComponentLink1Description: Manufacturer; ComponentLink1URL: http://www.we-online.de; Created by: Christin Zierenner; Created Date: August 2009; ComponentLink2Description: Datasheet; ComponentLink2URL: http://www.we-online.de/katalog/media/pdf/7447745330.pdf
footprint WE-PD2_5820 (SMD Inductor, 2-Leads, Body 5,8x5,2mm)
pins: 1, 2

## WE-PD2 5820, MS, 74477450012
designator L?, comment 0.12 µH
SMD Power Inductor WE-PD2, L=0.12 µH; partNo: 74477450012; Manufacturer: Würth Elektronik eiSos GmbH; Inductance: 0.12 µH; ComponentLink1Description: Manufacturer; ComponentLink1URL: http://www.we-online.de; Created by: Christin Zierenner; Created Date: August 2009; ComponentLink2Description: Datasheet; ComponentLink2URL: http://www.we-online.de/katalog/media/pdf/74477450012.pdf
footprint WE-PD2_5820 (SMD Inductor, 2-Leads, Body 5,8x5,2mm)
pins: 1, 2

## WE-PD2 5820, MS, 74477450027
designator L?, comment 0.27 µH
SMD Power Inductor WE-PD2, L=0.27 µH; partNo: 74477450027; Manufacturer: Würth Elektronik eiSos GmbH; Inductance: 0.27 µH; ComponentLink1Description: Manufacturer; ComponentLink1URL: http://www.we-online.de; Created by: Christin Zierenner; Created Date: August 2009; ComponentLink2Description: Datasheet; ComponentLink2URL: http://www.we-online.de/katalog/media/pdf/74477450027.pdf
footprint WE-PD2_5820 (SMD Inductor, 2-Leads, Body 5,8x5,2mm)
pins: 1, 2

## WE-PD2 5820, MS, 74477450056
designator L?, comment 0.56 µH
SMD Power Inductor WE-PD2, L=0.56 µH; partNo: 74477450056; Manufacturer: Würth Elektronik eiSos GmbH; Inductance: 0.56 µH; ComponentLink1Description: Manufacturer; ComponentLink1URL: http://www.we-online.de; Created by: Christin Zierenner; Created Date: August 2009; ComponentLink2Description: Datasheet; ComponentLink2URL: http://www.we-online.de/katalog/media/pdf/74477450056.pdf
footprint WE-PD2_5820 (SMD Inductor, 2-Leads, Body 5,8x5,2mm)
pins: 1, 2

## WE-PD2 5820, MS, 74477450082
designator L?, comment 0.82 µH
SMD Power Inductor WE-PD2, L=0.82 µH; partNo: 74477450082; Manufacturer: Würth Elektronik eiSos GmbH; Inductance: 0.82 µH; ComponentLink1Description: Manufacturer; ComponentLink1URL: http://www.we-online.de; Created by: Christin Zierenner; Created Date: August 2009; ComponentLink2Description: Datasheet; ComponentLink2URL: http://www.we-online.de/katalog/media/pdf/74477450082.pdf
footprint WE-PD2_5820 (SMD Inductor, 2-Leads, Body 5,8x5,2mm)
pins: 1, 2


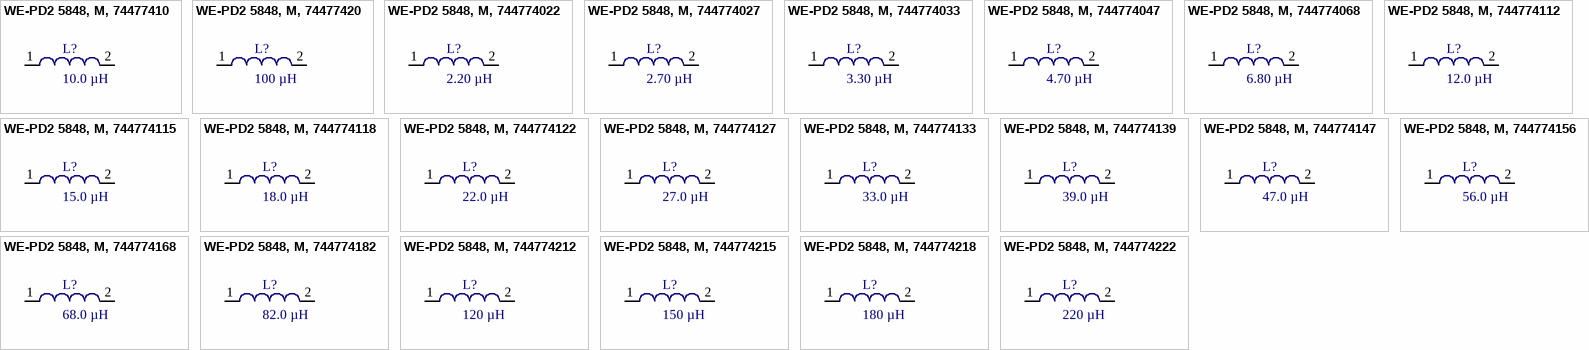
[diagram p3: symbols WE-PD2 5848, M, 74477410 to WE-PD2 5848, M, 744774222]

## WE-PD2 5848, M, 74477410
designator L?, comment 10.0 µH
SMD Power Inductor WE-PD2, L=10.0 µH; Part Number: 74477410; Manufacturer: Würth Elektronik eiSos GmbH; Inductance: 10.0 µH; ComponentLink1Description: Manufacturer; ComponentLink1URL: http://www.we-online.de; Created by: Christin Zierenner; Created Date: August 2009; ComponentLink2Description: Datasheet; ComponentLink2URL: http://www.we-online.de/katalog/media/pdf/74477410.pdf
footprint WE-PD2_5848 (SMD Inductor, 2-Leads, Body 5,8x5,2mm)
pins: 1, 2

## WE-PD2 5848, M, 74477420
designator L?, comment 100 µH
SMD Power Inductor WE-PD2, L=100 µH; Part Number: 74477420; Manufacturer: Würth Elektronik eiSos GmbH; Inductance: 100 µH; ComponentLink1Description: Manufacturer; ComponentLink1URL: http://www.we-online.de; Created by: Christin Zierenner; Created Date: August 2009; ComponentLink2Description: Datasheet; ComponentLink2URL: http://www.we-online.de/katalog/media/pdf/74477420.pdf
footprint WE-PD2_5848 (SMD Inductor, 2-Leads, Body 5,8x5,2mm)
pins: 1, 2

## WE-PD2 5848, M, 744774022
designator L?, comment 2.20 µH
SMD Power Inductor WE-PD2, L=2.20 µH; Part Number: 744774022; Manufacturer: Würth Elektronik eiSos GmbH; Inductance: 2.20 µH; ComponentLink1Description: Manufacturer; ComponentLink1URL: http://www.we-online.de; Created by: Christin Zierenner; Created Date: August 2009; ComponentLink2Description: Datasheet; ComponentLink2URL: http://www.we-online.de/katalog/media/pdf/744774022.pdf
footprint WE-PD2_5848 (SMD Inductor, 2-Leads, Body 5,8x5,2mm)
pins: 1, 2

## WE-PD2 5848, M, 744774027
designator L?, comment 2.70 µH
SMD Power Inductor WE-PD2, L=2.70 µH; Part Number: 744774027; Manufacturer: Würth Elektronik eiSos GmbH; Inductance: 2.70 µH; ComponentLink1Description: Manufacturer; ComponentLink1URL: http://www.we-online.de; Created by: Christin Zierenner; Created Date: August 2009; ComponentLink2Description: Datasheet; ComponentLink2URL: http://www.we-online.de/katalog/media/pdf/744774027.pdf
footprint WE-PD2_5848 (SMD Inductor, 2-Leads, Body 5,8x5,2mm)
pins: 1, 2

## WE-PD2 5848, M, 744774033
designator L?, comment 3.30 µH
SMD Power Inductor WE-PD2, L=3.30 µH; Part Number: 744774033; Manufacturer: Würth Elektronik eiSos GmbH; Inductance: 3.30 µH; ComponentLink1Description: Manufacturer; ComponentLink1URL: http://www.we-online.de; Created by: Christin Zierenner; Created Date: August 2009; ComponentLink2Description: Datasheet; ComponentLink2URL: http://www.we-online.de/katalog/media/pdf/744774033.pdf
footprint WE-PD2_5848 (SMD Inductor, 2-Leads, Body 5,8x5,2mm)
pins: 1, 2

## WE-PD2 5848, M, 744774047
designator L?, comment 4.70 µH
SMD Power Inductor WE-PD2, L=4.70 µH; Part Number: 744774047; Manufacturer: Würth Elektronik eiSos GmbH; Inductance: 4.70 µH; ComponentLink1Description: Manufacturer; ComponentLink1URL: http://www.we-online.de; Created by: Christin Zierenner; Created Date: August 2009; ComponentLink2Description: Datasheet; ComponentLink2URL: http://www.we-online.de/katalog/media/pdf/744774047.pdf
footprint WE-PD2_5848 (SMD Inductor, 2-Leads, Body 5,8x5,2mm)
pins: 1, 2

## WE-PD2 5848, M, 744774068
designator L?, comment 6.80 µH
SMD Power Inductor WE-PD2, L=6.80 µH; Part Number: 744774068; Manufacturer: Würth Elektronik eiSos GmbH; Inductance: 6.80 µH; ComponentLink1Description: Manufacturer; ComponentLink1URL: http://www.we-online.de; Created by: Christin Zierenner; Created Date: August 2009; ComponentLink2Description: Datasheet; ComponentLink2URL: http://www.we-online.de/katalog/media/pdf/744774068.pdf
footprint WE-PD2_5848 (SMD Inductor, 2-Leads, Body 5,8x5,2mm)
pins: 1, 2

## WE-PD2 5848, M, 744774112
designator L?, comment 12.0 µH
SMD Power Inductor WE-PD2, L=12.0 µH; Part Number: 744774112; Manufacturer: Würth Elektronik eiSos GmbH; Inductance: 12.0 µH; ComponentLink1Description: Manufacturer; ComponentLink1URL: http://www.we-online.de; Created by: Christin Zierenner; Created Date: August 2009; ComponentLink2Description: Datasheet; ComponentLink2URL: http://www.we-online.de/katalog/media/pdf/744774112.pdf
footprint WE-PD2_5848 (SMD Inductor, 2-Leads, Body 5,8x5,2mm)
pins: 1, 2

## WE-PD2 5848, M, 744774115
designator L?, comment 15.0 µH
SMD Power Inductor WE-PD2, L=15.0 µH; Part Number: 744774115; Manufacturer: Würth Elektronik eiSos GmbH; Inductance: 15.0 µH; ComponentLink1Description: Manufacturer; ComponentLink1URL: http://www.we-online.de; Created by: Christin Zierenner; Created Date: August 2009; ComponentLink2Description: Datasheet; ComponentLink2URL: http://www.we-online.de/katalog/media/pdf/744774115.pdf
footprint WE-PD2_5848 (SMD Inductor, 2-Leads, Body 5,8x5,2mm)
pins: 1, 2

## WE-PD2 5848, M, 744774118
designator L?, comment 18.0 µH
SMD Power Inductor WE-PD2, L=18.0 µH; Part Number: 744774118; Manufacturer: Würth Elektronik eiSos GmbH; Inductance: 18.0 µH; ComponentLink1Description: Manufacturer; ComponentLink1URL: http://www.we-online.de; Created by: Christin Zierenner; Created Date: August 2009; ComponentLink2Description: Datasheet; ComponentLink2URL: http://www.we-online.de/katalog/media/pdf/744774118.pdf
footprint WE-PD2_5848 (SMD Inductor, 2-Leads, Body 5,8x5,2mm)
pins: 1, 2

## WE-PD2 5848, M, 744774122
designator L?, comment 22.0 µH
SMD Power Inductor WE-PD2, L=22.0 µH; Part Number: 744774122; Manufacturer: Würth Elektronik eiSos GmbH; Inductance: 22.0 µH; ComponentLink1Description: Manufacturer; ComponentLink1URL: http://www.we-online.de; Created by: Christin Zierenner; Created Date: August 2009; ComponentLink2Description: Datasheet; ComponentLink2URL: http://www.we-online.de/katalog/media/pdf/744774122.pdf
footprint WE-PD2_5848 (SMD Inductor, 2-Leads, Body 5,8x5,2mm)
pins: 1, 2

## WE-PD2 5848, M, 744774127
designator L?, comment 27.0 µH
SMD Power Inductor WE-PD2, L=27.0 µH; Part Number: 744774127; Manufacturer: Würth Elektronik eiSos GmbH; Inductance: 27.0 µH; ComponentLink1Description: Manufacturer; ComponentLink1URL: http://www.we-online.de; Created by: Christin Zierenner; Created Date: August 2009; ComponentLink2Description: Datasheet; ComponentLink2URL: http://www.we-online.de/katalog/media/pdf/744774127.pdf
footprint WE-PD2_5848 (SMD Inductor, 2-Leads, Body 5,8x5,2mm)
pins: 1, 2

## WE-PD2 5848, M, 744774133
designator L?, comment 33.0 µH
SMD Power Inductor WE-PD2, L=33.0 µH; Part Number: 744774133; Manufacturer: Würth Elektronik eiSos GmbH; Inductance: 33.0 µH; ComponentLink1Description: Manufacturer; ComponentLink1URL: http://www.we-online.de; Created by: Christin Zierenner; Created Date: August 2009; ComponentLink2Description: Datasheet; ComponentLink2URL: http://www.we-online.de/katalog/media/pdf/744774133.pdf
footprint WE-PD2_5848 (SMD Inductor, 2-Leads, Body 5,8x5,2mm)
pins: 1, 2

## WE-PD2 5848, M, 744774139
designator L?, comment 39.0 µH
SMD Power Inductor WE-PD2, L=39.0 µH; Part Number: 744774139; Manufacturer: Würth Elektronik eiSos GmbH; Inductance: 39.0 µH; ComponentLink1Description: Manufacturer; ComponentLink1URL: http://www.we-online.de; Created by: Christin Zierenner; Created Date: August 2009; ComponentLink2Description: Datasheet; ComponentLink2URL: http://www.we-online.de/katalog/media/pdf/744774139.pdf
footprint WE-PD2_5848 (SMD Inductor, 2-Leads, Body 5,8x5,2mm)
pins: 1, 2

## WE-PD2 5848, M, 744774147
designator L?, comment 47.0 µH
SMD Power Inductor WE-PD2, L=47.0 µH; Part Number: 744774147; Manufacturer: Würth Elektronik eiSos GmbH; Inductance: 47.0 µH; ComponentLink1Description: Manufacturer; ComponentLink1URL: http://www.we-online.de; Created by: Christin Zierenner; Created Date: August 2009; ComponentLink2Description: Datasheet; ComponentLink2URL: http://www.we-online.de/katalog/media/pdf/744774147.pdf
footprint WE-PD2_5848 (SMD Inductor, 2-Leads, Body 5,8x5,2mm)
pins: 1, 2

## WE-PD2 5848, M, 744774156
designator L?, comment 56.0 µH
SMD Power Inductor WE-PD2, L=56.0 µH; Part Number: 744774156; Manufacturer: Würth Elektronik eiSos GmbH; Inductance: 56.0 µH; ComponentLink1Description: Manufacturer; ComponentLink1URL: http://www.we-online.de; Created by: Christin Zierenner; Created Date: August 2009; ComponentLink2Description: Datasheet; ComponentLink2URL: http://www.we-online.de/katalog/media/pdf/744774156.pdf
footprint WE-PD2_5848 (SMD Inductor, 2-Leads, Body 5,8x5,2mm)
pins: 1, 2

## WE-PD2 5848, M, 744774168
designator L?, comment 68.0 µH
SMD Power Inductor WE-PD2, L=68.0 µH; Part Number: 744774168; Manufacturer: Würth Elektronik eiSos GmbH; Inductance: 68.0 µH; ComponentLink1Description: Manufacturer; ComponentLink1URL: http://www.we-online.de; Created by: Christin Zierenner; Created Date: August 2009; ComponentLink2Description: Datasheet; ComponentLink2URL: http://www.we-online.de/katalog/media/pdf/744774168.pdf
footprint WE-PD2_5848 (SMD Inductor, 2-Leads, Body 5,8x5,2mm)
pins: 1, 2

## WE-PD2 5848, M, 744774182
designator L?, comment 82.0 µH
SMD Power Inductor WE-PD2, L=82.0 µH; Part Number: 744774182; Manufacturer: Würth Elektronik eiSos GmbH; Inductance: 82.0 µH; ComponentLink1Description: Manufacturer; ComponentLink1URL: http://www.we-online.de; Created by: Christin Zierenner; Created Date: August 2009; ComponentLink2Description: Datasheet; ComponentLink2URL: http://www.we-online.de/katalog/media/pdf/744774182.pdf
footprint WE-PD2_5848 (SMD Inductor, 2-Leads, Body 5,8x5,2mm)
pins: 1, 2

## WE-PD2 5848, M, 744774212
designator L?, comment 120 µH
SMD Power Inductor WE-PD2, L=120 µH; Part Number: 744774212; Manufacturer: Würth Elektronik eiSos GmbH; Inductance: 120 µH; ComponentLink1Description: Manufacturer; ComponentLink1URL: http://www.we-online.de; Created by: Christin Zierenner; Created Date: August 2009; ComponentLink2Description: Datasheet; ComponentLink2URL: http://www.we-online.de/katalog/media/pdf/744774212.pdf
footprint WE-PD2_5848 (SMD Inductor, 2-Leads, Body 5,8x5,2mm)
pins: 1, 2

## WE-PD2 5848, M, 744774215
designator L?, comment 150 µH
SMD Power Inductor WE-PD2, L=150 µH; Part Number: 744774215; Manufacturer: Würth Elektronik eiSos GmbH; Inductance: 150 µH; ComponentLink1Description: Manufacturer; ComponentLink1URL: http://www.we-online.de; Created by: Christin Zierenner; Created Date: August 2009; ComponentLink2Description: Datasheet; ComponentLink2URL: http://www.we-online.de/katalog/media/pdf/744774215.pdf
footprint WE-PD2_5848 (SMD Inductor, 2-Leads, Body 5,8x5,2mm)
pins: 1, 2

## WE-PD2 5848, M, 744774218
designator L?, comment 180 µH
SMD Power Inductor WE-PD2, L=180 µH; Part Number: 744774218; Manufacturer: Würth Elektronik eiSos GmbH; Inductance: 180 µH; ComponentLink1Description: Manufacturer; ComponentLink1URL: http://www.we-online.de; Created by: Christin Zierenner; Created Date: August 2009; ComponentLink2Description: Datasheet; ComponentLink2URL: http://www.we-online.de/katalog/media/pdf/744774218.pdf
footprint WE-PD2_5848 (SMD Inductor, 2-Leads, Body 5,8x5,2mm)
pins: 1, 2

## WE-PD2 5848, M, 744774222
designator L?, comment 220 µH
SMD Power Inductor WE-PD2, L=220 µH; Part Number: 744774222; Manufacturer: Würth Elektronik eiSos GmbH; Inductance: 220 µH; ComponentLink1Description: Manufacturer; ComponentLink1URL: http://www.we-online.de; Created by: Christin Zierenner; Created Date: August 2009; ComponentLink2Description: Datasheet; ComponentLink2URL: http://www.we-online.de/katalog/media/pdf/744774222.pdf
footprint WE-PD2_5848 (SMD Inductor, 2-Leads, Body 5,8x5,2mm)
pins: 1, 2


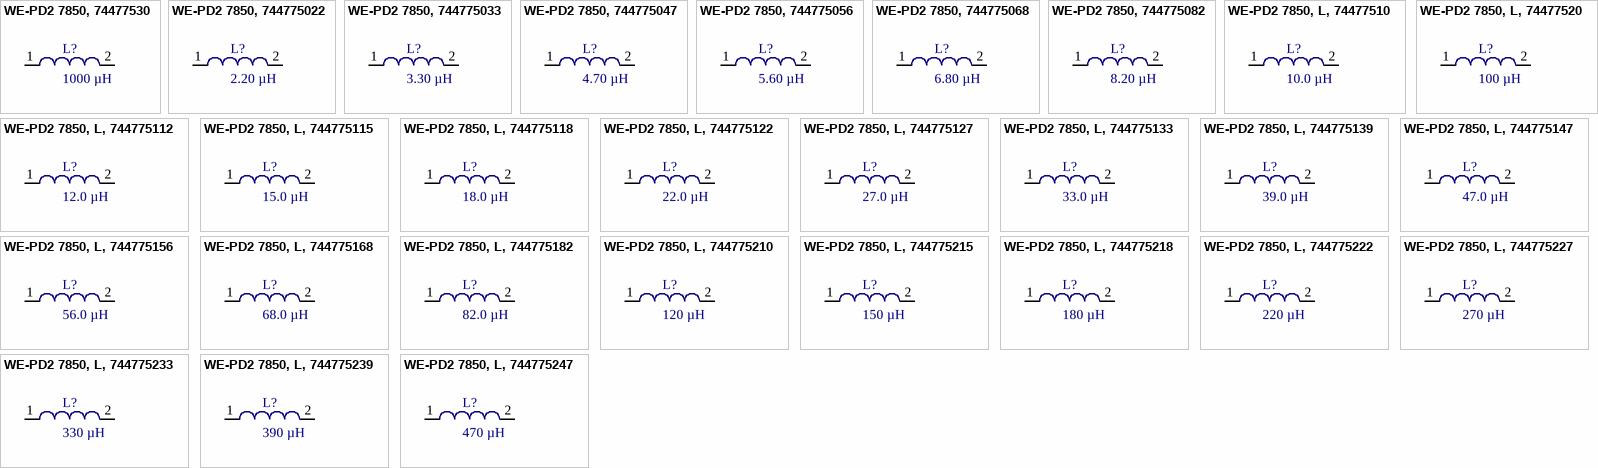
[diagram p4: symbols WE-PD2 7850, 74477530 to WE-PD2 7850, L, 744775247]

## WE-PD2 7850, 74477530
designator L?, comment 1000 µH
SMD Power Inductor WE-PD2, L=1000 µH; partNo: 74477530; Manufacturer: Würth Elektronik eiSos GmbH; Inductance: 1000 µH; ComponentLink1Description: Manufacturer; ComponentLink1URL: http://www.we-online.de; Created by: Christin Otto; Created Date: August 2013; ComponentLink2Description: Datasheet; ComponentLink2URL: http://www.we-online.de/katalog/media/pdf/74477530.pdf
footprint WE-PD2_7850 (SMD Inductor, 2-Leads, Body 7,8x7,0mm)
pins: 1, 2

## WE-PD2 7850, 744775022
designator L?, comment 2.20 µH
SMD Power Inductor WE-PD2, L=2.20 µH; partNo: 744775022; Manufacturer: Würth Elektronik eiSos GmbH; Inductance: 2.20 µH; ComponentLink1Description: Manufacturer; ComponentLink1URL: http://www.we-online.de; Created by: Christin Otto; Created Date: March 2013; ComponentLink2Description: Datasheet; ComponentLink2URL: http://www.we-online.de/katalog/media/pdf/744775022.pdf
footprint WE-PD2_7850 (SMD Inductor, 2-Leads, Body 7,8x7,0mm)
pins: 1, 2